# EAGLE library part 282834-8 (library con-tyco)
TERMINAL BLOCK
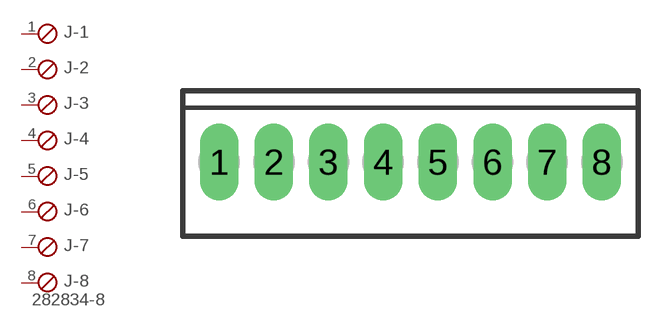
[diagram p19: symbol with the pads of 282834-8; footprint 282834-8]

Designator prefix J; gates -1=SKB -2=SKB -3=SKB -4=SKB -5=SKB -6=SKB -7=SKB -8=SKBV

## 282834-8  [282834-8]
1  -1:1  pas
2  -2:1  pas
3  -3:1  pas
4  -4:1  pas
5  -5:1  pas
6  -6:1  pas
7  -7:1  pas
8  -8:1  pas

## Footprint 282834-8 (pad centres in mm)
PHOENIX CONNECTOR
drill 1.194 long: 1 -8.89,0; 2 -6.35,0; 3 -3.81,0; 4 -1.27,0; 5 1.27,0; 6 3.81,0; 7 6.35,0; 8 8.89,0